# Altium footprint library HGH.PcbLib: 336 footprints (part 7 of 21)
Each footprint in its own frame and in the unit in brackets; x right, y up, seen from the top. Pads: shape width x height; smd on the part's side, far side on the other; paste and mask are expansions set on the pad; w line width, h text height; cw(c..) or ccw(c..) is an arc to the next point about the centre after c.
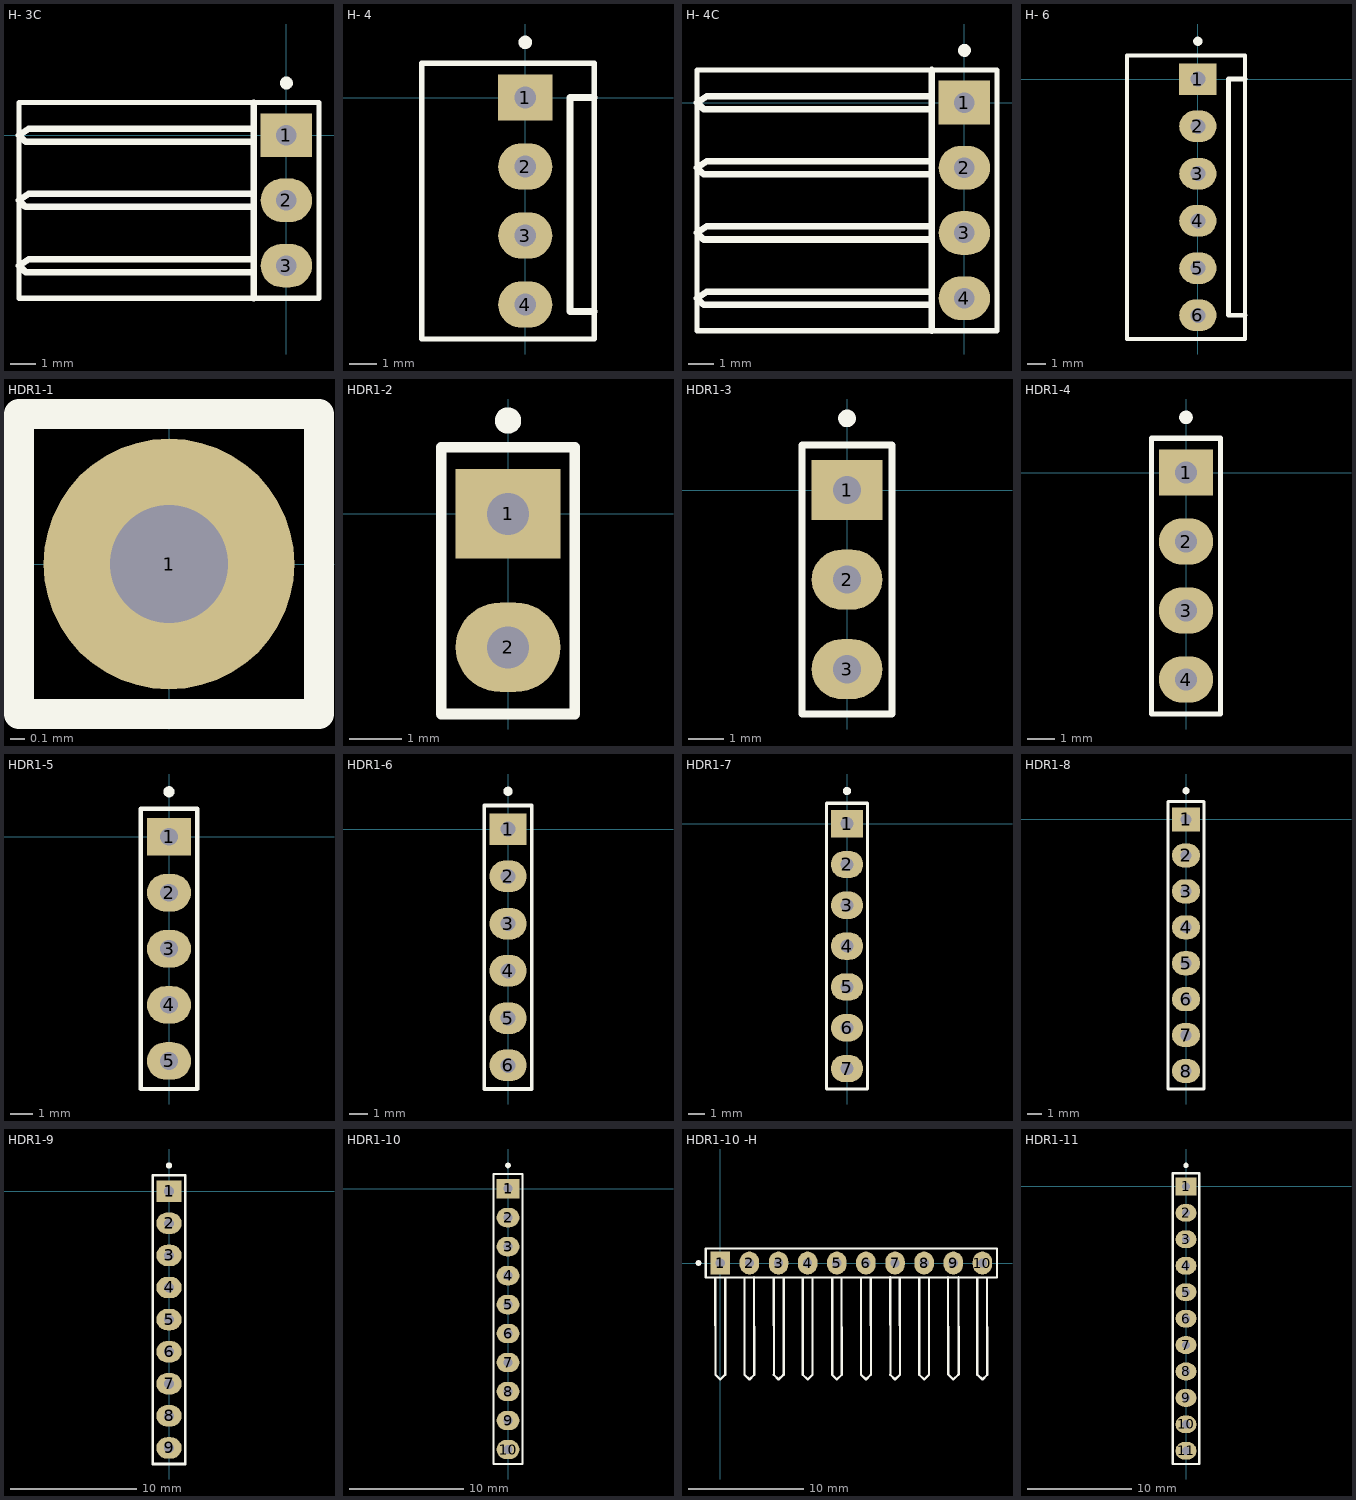
[diagram p6: the footprints below, top view; thin cyan lines are the x and y axes]

## H- 3C [mm]
pads (3):
  rect 2x1.7 hole 0.8: 1(0,0)
  oval 2x1.7 hole 0.8: 2(0,-2.54) 3(0,-5.08)
Top Overlay:
  circle w0.25: c0,2.03 r0.125
  lines w0.2: -10.414,-6.35 -10.414,1.27 1.27,1.27 1.27,-0.635 1.27,-6.35 -10.414,-6.35
  lines w0.254: -1.27,-6.35 -1.27,1.27 ; -1.27,-5.334 -10.16,-5.334 -10.414,-5.08 -10.033,-4.826 -1.27,-4.826 ; -1.27,-2.794 -10.16,-2.794 -10.414,-2.54 -10.033,-2.286 -1.27,-2.286 ; -1.27,-0.254 -10.16,-0.254 -10.414,0 -10.033,0.254 -1.27,0.254

## H- 4 [mm]
pads (4):
  rect 2x1.7 hole 0.8: 1(0,0)
  oval 2x1.7 hole 0.8: 2(0,-2.54) 3(0,-5.08) 4(0,-7.62)
Top Overlay:
  circle w0.25: c0,2.03 r0.125
  lines w0.2: -3.81,-8.89 2.54,-8.89 2.54,1.27 -3.81,1.27 -3.81,-8.89
  lines w0.254: 2.54,-7.874 1.651,-7.874 1.651,0 2.54,0

## H- 4C [mm]
pads (4):
  rect 2x1.7 hole 0.8: 1(0,0)
  oval 2x1.7 hole 0.8: 2(0,-2.54) 3(0,-5.08) 4(0,-7.62)
Top Overlay:
  circle w0.25: c0,2.03 r0.125
  lines w0.2: -10.414,-8.89 -10.414,1.27 1.27,1.27 1.27,-0.635 1.27,-8.89 -10.414,-8.89
  lines w0.254: -1.27,-8.89 -1.27,1.27 ; -1.27,-7.874 -10.16,-7.874 -10.414,-7.62 -10.033,-7.366 -1.27,-7.366 ; -1.27,-5.334 -10.16,-5.334 -10.414,-5.08 -10.033,-4.826 -1.27,-4.826 ; -1.27,-2.794 -10.16,-2.794 -10.414,-2.54 -10.033,-2.286 -1.27,-2.286 ; -1.27,-0.254 -10.16,-0.254 -10.414,0 -10.033,0.254 -1.27,0.254

## H- 6 [mm]
pads (6):
  rect 2x1.7 hole 0.8: 1(0,0)
  oval 2x1.7 hole 0.8: 2(0,-2.54) 3(0,-5.08) 4(0,-7.62) 5(0,-10.16) 6(0,-12.7)
Top Overlay:
  circle w0.25: c0,2.03 r0.125
  lines w0.2: -3.81,-13.97 -3.81,1.27 2.54,1.27 2.54,-13.97 -3.81,-13.97
  lines w0.254: 2.54,-12.7 1.651,-12.7 1.651,0 2.54,0

## HDR1-1 [mm]
pads (1):
  round 1.7 hole 0.8: 1(0,0)
Top Overlay:
  lines w0.2: -1.016,-1.016 1.016,-1.016 1.016,1.016 -1.016,1.016 -1.016,-1.016

## HDR1-2 [mm]
pads (2):
  rect 2x1.7 hole 0.8: 1(0,0)
  oval 2x1.7 hole 0.8: 2(0,-2.54)
Top Overlay:
  circle w0.25: c0,1.776 r0.125
  lines w0.2: -1.27,-3.81 1.27,-3.81 1.27,1.27 -1.27,1.27 -1.27,-3.81

## HDR1-3 [mm]
pads (3):
  rect 2x1.7 hole 0.8: 1(0,0)
  oval 2x1.7 hole 0.8: 2(0,-2.54) 3(0,-5.08)
Top Overlay:
  circle w0.25: c0,2.03 r0.125
  lines w0.2: -1.27,-6.35 1.27,-6.35 1.27,-0.635 1.27,1.27 -1.27,1.27 -1.27,-6.35

## HDR1-4 [mm]
pads (4):
  rect 2x1.7 hole 0.8: 1(0,0)
  oval 2x1.7 hole 0.8: 2(0,-2.54) 3(0,-5.08) 4(0,-7.62)
Top Overlay:
  circle w0.25: c0,2.03 r0.125
  lines w0.2: -1.27,-8.89 -1.27,1.27 1.27,1.27 1.27,-0.635 1.27,-8.89 -1.27,-8.89

## HDR1-5 [mm]
pads (5):
  rect 2x1.7 hole 0.8: 1(0,0)
  oval 2x1.7 hole 0.8: 2(0,-2.54) 3(0,-5.08) 4(0,-7.62) 5(0,-10.16)
Top Overlay:
  circle w0.25: c0,2.03 r0.125
  lines w0.2: -1.27,-11.43 -1.27,1.27 1.27,1.27 1.27,-0.635 1.27,-11.43 -1.27,-11.43

## HDR1-6 [mm]
pads (6):
  rect 2x1.7 hole 0.8: 1(0,0)
  oval 2x1.7 hole 0.8: 2(0,-2.54) 3(0,-5.08) 4(0,-7.62) 5(0,-10.16) 6(0,-12.7)
Top Overlay:
  circle w0.25: c0,2.03 r0.125
  lines w0.2: -1.27,-13.97 -1.27,1.27 1.27,1.27 1.27,-0.635 1.27,-13.97 -1.27,-13.97

## HDR1-7 [mm]
pads (7):
  rect 2x1.7 hole 0.8: 1(0,0)
  oval 2x1.7 hole 0.8: 2(0,-2.54) 3(0,-5.08) 4(0,-7.62) 5(0,-10.16) 6(0,-12.7) 7(0,-15.24)
Top Overlay:
  circle w0.25: c0,2.03 r0.125
  lines w0.2: -1.27,-16.51 -1.27,1.27 1.27,1.27 1.27,-0.635 1.27,-16.51 -1.27,-16.51

## HDR1-8 [mm]
pads (8):
  rect 2x1.7 hole 0.8: 1(0,0)
  oval 2x1.7 hole 0.8: 2(0,-2.54) 3(0,-5.08) 4(0,-7.62) 5(0,-10.16) 6(0,-12.7) 7(0,-15.24) 8(0,-17.78)
Top Overlay:
  circle w0.25: c0,2.03 r0.125
  lines w0.2: -1.27,-19.05 -1.27,1.27 1.27,1.27 1.27,-0.635 1.27,-19.05 -1.27,-19.05

## HDR1-9 [mm]
pads (9):
  rect 2x1.7 hole 0.8: 1(0,0)
  oval 2x1.7 hole 0.8: 2(0,-2.54) 3(0,-5.08) 4(0,-7.62) 5(0,-10.16) 6(0,-12.7) 7(0,-15.24) 8(0,-17.78) 9(0,-20.32)
Top Overlay:
  circle w0.25: c0,2.03 r0.125
  lines w0.2: -1.27,-21.59 1.27,-21.59 1.27,-0.635 1.27,1.27 -1.27,1.27 -1.27,-21.59

## HDR1-10 [mm]
pads (10):
  rect 2x1.7 hole 0.8: 1(0,0)
  oval 2x1.7 hole 0.8: 2(0,-2.54) 3(0,-5.08) 4(0,-7.62) 5(0,-10.16) 6(0,-12.7) 7(0,-15.24) 8(0,-17.78) 9(0,-20.32) 10(0,-22.86)
Top Overlay:
  circle w0.25: c0,2.03 r0.125
  lines w0.2: -1.27,-24.13 -1.27,1.27 1.27,1.27 1.27,-0.635 1.27,-24.13 -1.27,-24.13

## HDR1-10 -H [mm]
pads (10):
  rect 1.7x2 hole 0.8: 1(0,0)
  oval 1.7x2 hole 0.8: 2(2.54,0) 3(5.08,0) 4(7.62,0) 5(10.16,0) 6(12.7,0) 7(15.24,0) 8(17.78,0) 9(20.32,0) 10(22.86,0)
Top Overlay:
  circle w0.25: c-1.903,0 r0.125
  lines w0.2: -0.432,-1.27 -0.423,-9.737 0,-10.16 0.423,-9.737 ; 0.432,-1.295 0.44,-9.762 ; 2.108,-1.27 2.117,-9.737 2.54,-10.16 2.963,-9.737 ; 2.946,-1.245 2.955,-9.711 ; 4.657,-9.737 5.08,-10.16 5.503,-9.737 ; 4.674,-1.27 4.682,-9.737 ; 5.537,-1.295 5.546,-9.762 ; 7.188,-1.27 7.197,-9.737 7.62,-10.16 8.043,-9.737 8.035,-1.27 ; 9.737,-9.737 10.16,-10.16 10.583,-9.737 10.575,-1.27 ; 9.754,-1.295 9.762,-9.762 ; 12.268,-1.295 12.277,-9.762 ; 12.277,-9.737 12.7,-10.16 13.123,-9.737 ; 13.132,-1.27 13.14,-9.737 ; 14.817,-9.737 15.24,-10.16 15.663,-9.737 15.655,-1.27 ; 14.834,-1.245 14.842,-9.711 ; 17.348,-1.27 17.357,-9.737 17.78,-10.16 18.203,-9.737 18.195,-1.27 ; 19.863,-1.245 19.871,-9.711 ; 19.897,-9.737 20.32,-10.16 20.743,-9.737 ; 20.777,-1.245 20.786,-9.711 ; 22.403,-1.27 22.411,-9.737 ; 22.437,-9.737 22.86,-10.16 23.283,-9.737 ; 23.266,-1.295 23.275,-9.762 ; -1.27,-1.27 24.13,-1.27 24.13,1.27 0.635,1.27 -1.27,1.27 -1.27,-1.27

## HDR1-11 [mm]
pads (11):
  rect 2x1.7 hole 0.8: 1(0,0)
  oval 2x1.7 hole 0.8: 2(0,-2.54) 3(0,-5.08) 4(0,-7.62) 5(0,-10.16) 6(0,-12.7) 7(0,-15.24) 8(0,-17.78) 9(0,-20.32) 10(0,-22.86) 11(0,-25.4)
Top Overlay:
  circle w0.25: c0,2.03 r0.125
  lines w0.2: -1.27,-26.67 -1.27,1.27 1.27,1.27 1.27,-0.635 1.27,-26.67 -1.27,-26.67